# Altium integrated library Linear Technology Power Management Switching Regulator LTC1174-LTC3901.IntLib: 2647 symbols (part 171 of 364)
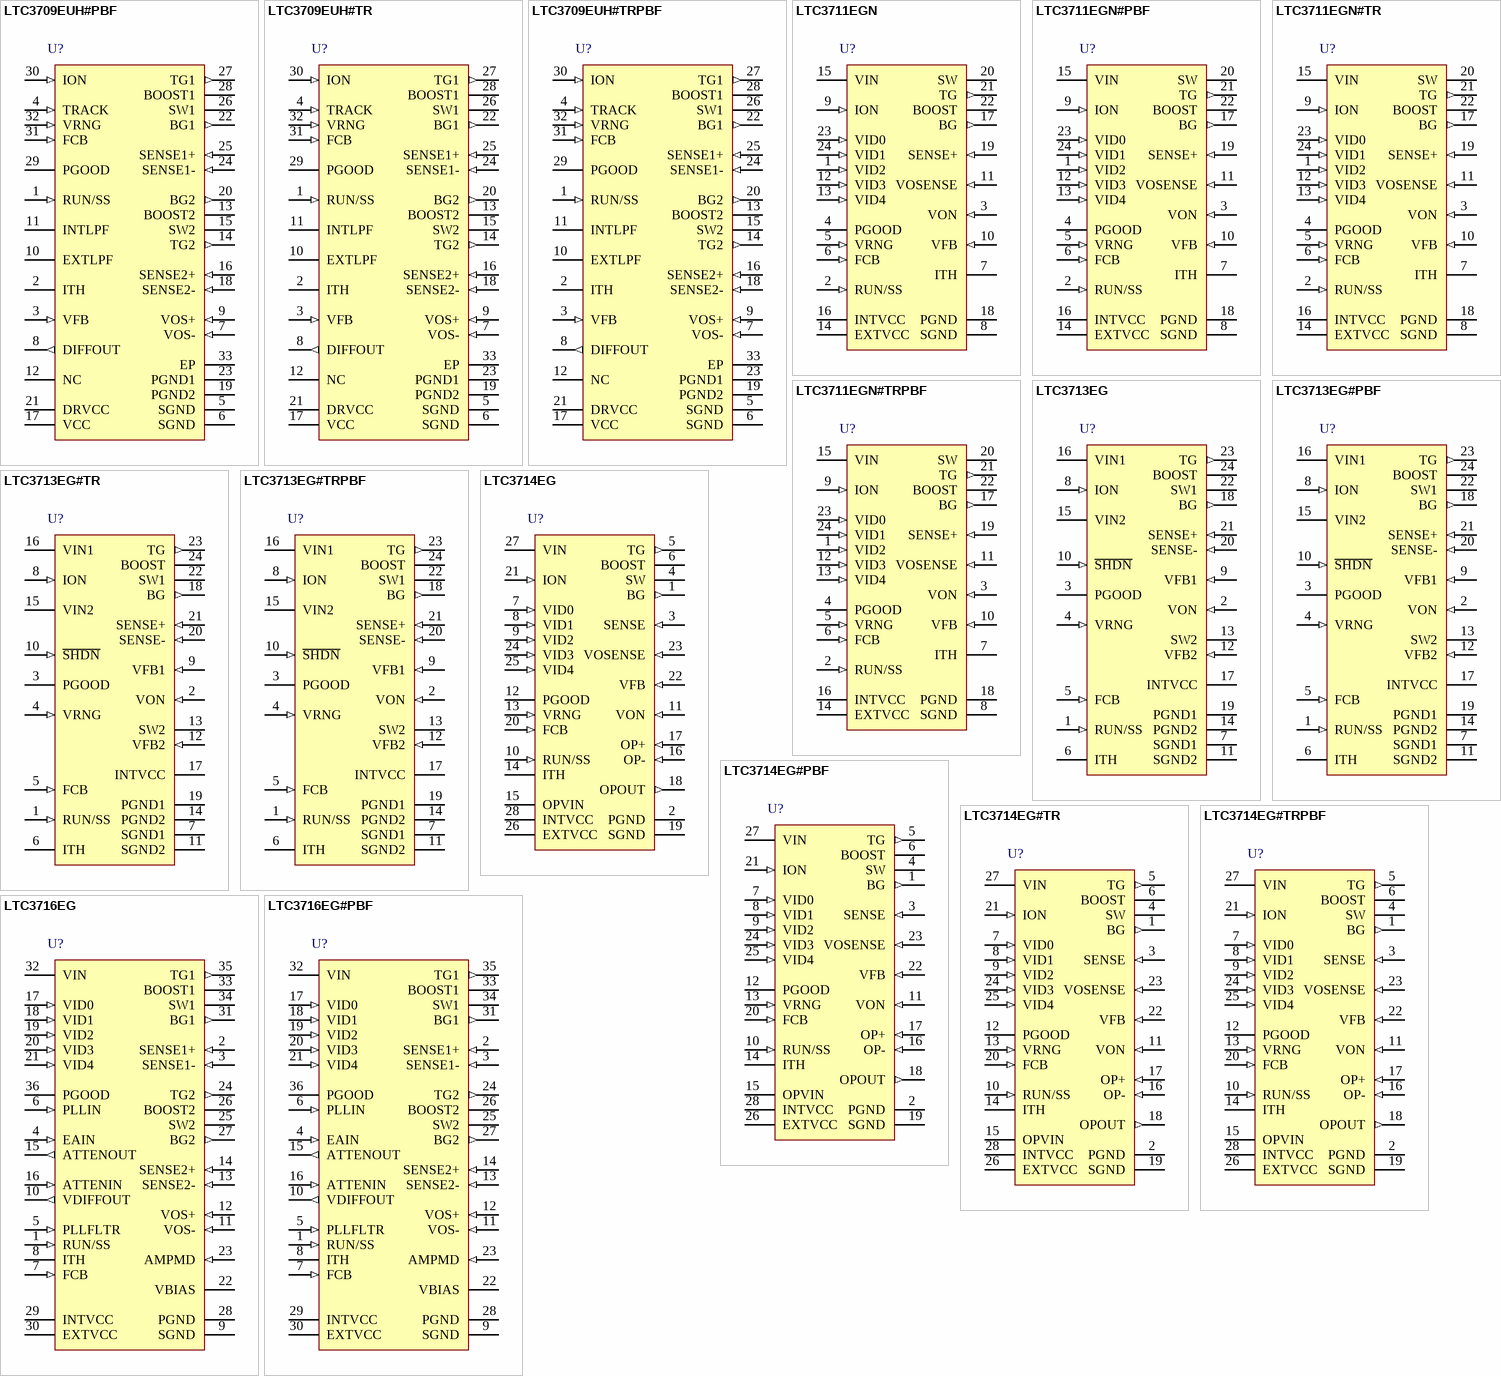
[diagram p302: symbols LTC3709EUH#PBF to LTC3716EG#PBF]

## LTC3713EG#TR
designator U?
Low Input Voltage, High Power, No Rsense Synchronous Buck DC/DC Controller, 24-pin SOP (G-24), -40 to 85 degC, Tape and Reel; Manufacturer: Linear Technology; PartNumber: LTC3713EG#TR; Number of Outputs: 1; DatasheetVersion: Rev. A; PackageVersion: Jun-10; PackageReference: G-24; PackageDescription: 24-Pin Plastic SSOP, Body 8.2 x 5.3 mm, Pitch 0.65 mm; Supplier 1: Digi-Key; Supplier Part Number 1: LTC3713EGTR-ND; Packing: Tape and Reel; RoHS: FALSE; Mounting Technology: Surface Mount; ComponentLink1Description: Manufacturer URL; ComponentLink1URL: http://www.linear.com/; ComponentLink2Description: Datasheet; ComponentLink2URL: http://cds.linear.com/docs/en/datasheet/3713fa.pdf; ComponentLink3Description: Package Specification; ComponentLink3URL: http://cds.linear.com/docs/en/packaging/SSOP_24_05-08-1640.pdf
footprint LT-G-24_N (SOP, 24-Leads, Body 8.5x5.6mm, Pitch 0.65mm, IPC Medium Density)
footprint LT-G-24_L (SOP, 24-Leads, Body 8.5x5.6mm, Pitch 0.65mm, IPC High Density)
footprint LT-G-24_M (SOP, 24-Leads, Body 8.5x5.6mm, Pitch 0.65mm, IPC Low Density)
pins: 1 RUN/SS (in) "Run Control and Soft-Start Input. A capacitor to ground at this pin sets the ramp time to full output current (approximately 3s/uF) and the time delay for overcurrent latchoff (see Applications Information). Forcing this pin (See Datasheet)", 2 VON (in) "On-Time Voltage Input. Voltage trip point for the on-time comparator. Tying this pin to the output voltage makes the on-time proportional to VOUT. The comparator input defaults to 0.7V when the pin is grounded, 2.4V when the (See Datasheet)", 3 PGOOD (oc) "Power Good Output. Open-drain logic output that is pulled to ground when the output voltage is not within +/-7.5% of the regulation point.", 4 VRNG (in) "Sense Voltage Range Input. The voltage at this pin is ten times the nominal sense voltage at maximum output current and can be set from 0.5V to 2V by a resistive divider from INTVCC. The nominal sense voltage defaults to (See Datasheet)", 5 FCB (in) "Forced Continuous Input. Tie this pin to ground to force continuous synchronous operation at low load, to INTVCC to enable discontinuous mode operation at low load or to a resistive divider from a secondary output when using (See Datasheet)", 6 ITH "Current Control Threshold and Error Amplifier Compensation Point. The current comparator threshold increases with this control voltage. The voltage ranges from 0V to 2.4V with 0.8V corresponding to zero sense voltage (zero (See Datasheet)", 7 SGND1 (power) "Signal Ground. All small-signal components and compensation components should connect to this ground, which in turn connects to PGND at one point.", 8 ION (in) "On-Time Current Input. Tie a resistor from VIN to this pin to set the one-shot timer current and thereby set the switching frequency.", 9 VFB1 (in) "Error Amplifier Feedback Input. This pin connects the error amplifier input to an external resistive divider from VOUT.", 10 ~{SHDN} (in) "Shutdown, Active Low. Tie to 1V or more to enable boost converter portion of the LTC3713. Ground to shut down.", 11 SGND2 (power) "Signal Ground. All small-signal components and compensation components should connect to this ground, which in turn connects to PGND at one point.", 12 VFB2 (in) "Boost Converter Feedback. The VFB2 pin is connected to INTVCC through a resistor divider to set the voltage on INTVCC. Set INTVCC voltage according to: VINTVCC = 1.23V(1 + RF4/RF3)", 13 SW2 (power) "Boost Converter Switch Pin. Connect inductor/diode for boost converter portion here. Minimize trace area at this pin to keep EMI down.", 14 PGND2 (power) "Power Ground. Connect these pins closely to the source of the bottom N-channel MOSFET, the (-) terminal of CVCC and the (-) terminal of CIN.", 15 VIN2 (power) "Input Supply Pin for Boost Converter Portion of LTC3713. Must be locally bypassed.", 16 VIN1 (power) "Main Input Supply. Decouple this pin to PGND with an RC filter (1ohm, 0.1uF).", 17 INTVCC (power) "Internal Regulator Output. The driver and control circuits are powered from this voltage. Decouple this pin to power ground with a minimum of 4.7uF low ESR tantalum or ceramic capacitor.", 18 BG (out) "Bottom Gate Drive. Drives the gate of the bottom N-channel MOSFET between ground and INTVCC.", 19 PGND1 (power) "Power Ground. Connect these pins closely to the source of the bottom N-channel MOSFET, the (-) terminal of CVCC and the (-) terminal of CIN.", 20 SENSE- (in) "Negative Current Sense Comparator Input. The (-) input to the current comparator is normally connected to power ground unless using a resistive divider from INTVCC (see Applications Information).", 21 SENSE+ (in) "Positive Current Sense Comparator Input. The (+) input to the current comparator is normally connected to the SW1 node unless using a sense resistor (see Applications Information).", 22 SW1 "Switch Node. The (-) terminal of the bootstrap capacitor CB connects here. This pin swings from a diode voltage drop below ground up to VIN.", 23 TG (out) "Top Gate Drive. Drives the top N-channel MOSFET with a voltage swing equal to INTVCC superimposed on the switch node voltage SW1.", 24 BOOST "Boosted Floating Driver Supply. The (+) terminal of the bootstrap capacitor CB connects here. This pin swings from a diode voltage drop below INTVCC up to VIN + INTVCC."